# EAGLE library part MC14536BCPG (library ON_Semiconductor_By_element14_Batch_1)
Programmable Timer
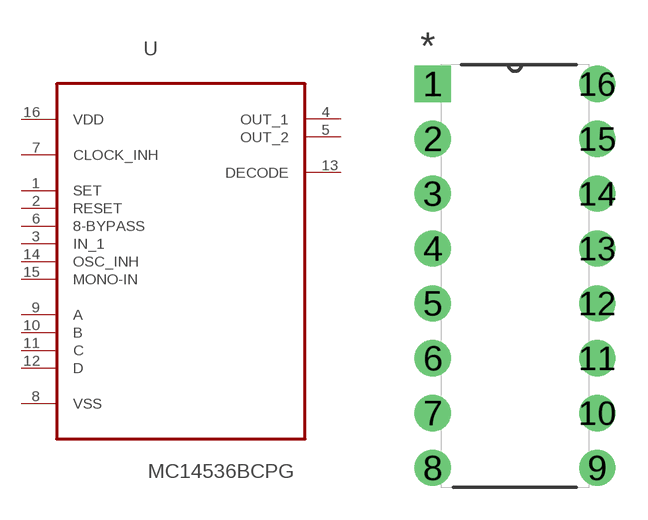
[diagram p289: symbol with the pads of DIP254P762X444-16; footprint DIP254P762X444-16]

Designator prefix U

## MC14536BCPG (MPN: MC14536BCPG; OC_FARNELL: 9664807; OC_NEWARK: 26K3966; PACKAGE: PDIP-16; SUPPLIER: ON SEMICONDUCTOR)  [DIP254P762X444-16]
1  SET  in
2  RESET  in
3  IN_1  in
4  OUT_1  out
5  OUT_2  out
6  8-BYPASS  in
7  CLOCK_INH  in
8  VSS  pwr
9  A  in
10  B  in
11  C  in
12  D  in
13  DECODE  out
14  OSC_INH  in
15  MONO-IN  in
16  VDD  pwr

## Footprint DIP254P762X444-16 (pad centres in mm)
drill 1.118 square: 1 -7.62,17.78
drill 1.118: 2 -7.62,15.24; 3 -7.62,12.7; 4 -7.62,10.16; 5 -7.62,7.62; 6 -7.62,5.08; 7 -7.62,2.54; 8 -7.62,0; 9 0,0; 10 0,2.54; 11 0,5.08; 12 0,7.62; 13 0,10.16; 14 0,12.7; 15 0,15.24; 16 0,17.78